# Altium schematic symbol library Diode-ring.SchLib: 1 symbol
Pins are listed as number, name and electrical type; pins without a type are passive.

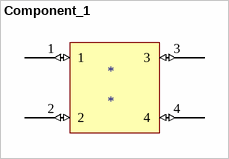
[diagram p0: symbol Component_1]

## Component_1
designator *
footprint TRANS_BFP183E7764HTSA1
pins: 1 (io), 2 (io), 3 (io), 4 (io)